# Altium footprint library CR-0805.PcbLib: 1 footprints
Each footprint in its own frame and in the unit in brackets; x right, y up, seen from the top. Pads: shape width x height; smd on the part's side, far side on the other; paste and mask are expansions set on the pad; w line width, h text height; cw(c..) or ccw(c..) is an arc to the next point about the centre after c.
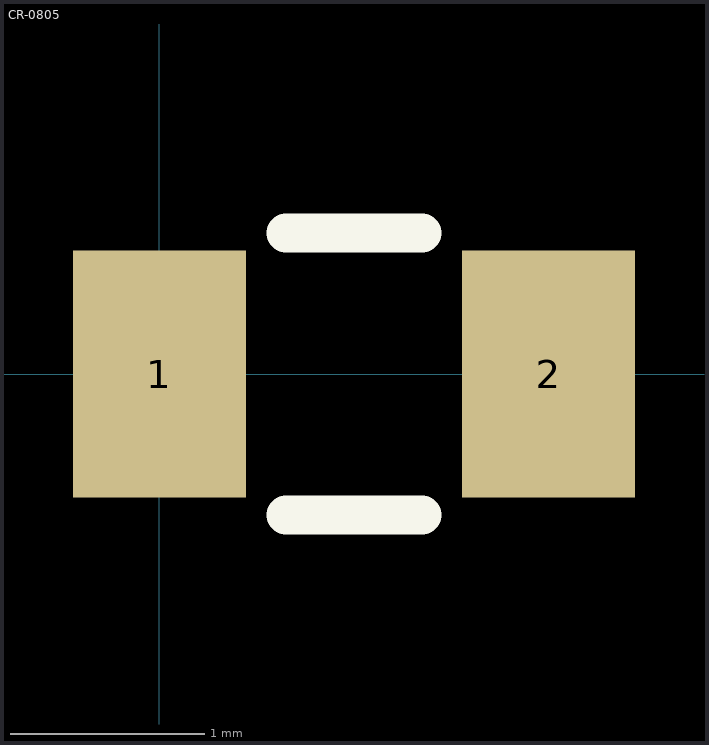
[diagram p0: the footprint, top view; thin cyan lines are the x and y axes]

## CR-0805 [mil]
height 50
pads (2):
  rect 35x50 smd: 1(0,0) 2(78.74,0)
Top Overlay:
  lines w7.87: 25.59,-28.54 53.15,-28.54 ; 25.59,28.54 53.15,28.54
3D body "SMD RLC-0805.STEP": height 16.96, standoff -0.75, extent 0.94,-24.6 79.68,24.61